# EAGLE library part RJ45 (library DAWA-MAIN-7.0)
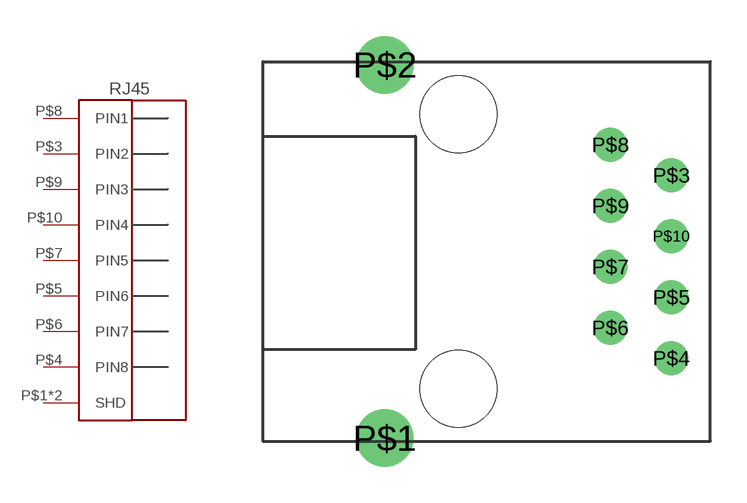
[diagram p13: symbol with the pads of RJ45; footprint RJ45]

Designator prefix X

## RJ45 (MPN: 0432028816)  [RJ45]
P$1  SHD
P$2  SHD
P$3  PIN2
P$4  PIN8
P$5  PIN6
P$6  PIN7
P$7  PIN5
P$8  PIN1
P$9  PIN3
P$10  PIN4

## Footprint RJ45 (pad centres in mm)
drill 1.6: P$1 5.08,0.13; P$2 5.08,15.67
drill 0.9: P$3 17.02,11.075; P$4 17.02,3.455; P$5 17.02,5.995; P$6 14.48,4.725; P$7 14.48,7.265; P$8 14.48,12.345; P$9 14.48,9.805; P$10 17.02,8.535
hole 3.2 at 8.14,2.185
hole 3.2 at 8.14,13.615